# Altium footprint library Modulo de apertura.PcbLib: 17 footprints (part 2 of 2)
Each footprint in its own frame and in the unit in brackets; x right, y up, seen from the top. Pads: shape width x height; smd on the part's side, far side on the other; paste and mask are expansions set on the pad; w line width, h text height; cw(c..) or ccw(c..) is an arc to the next point about the centre after c.
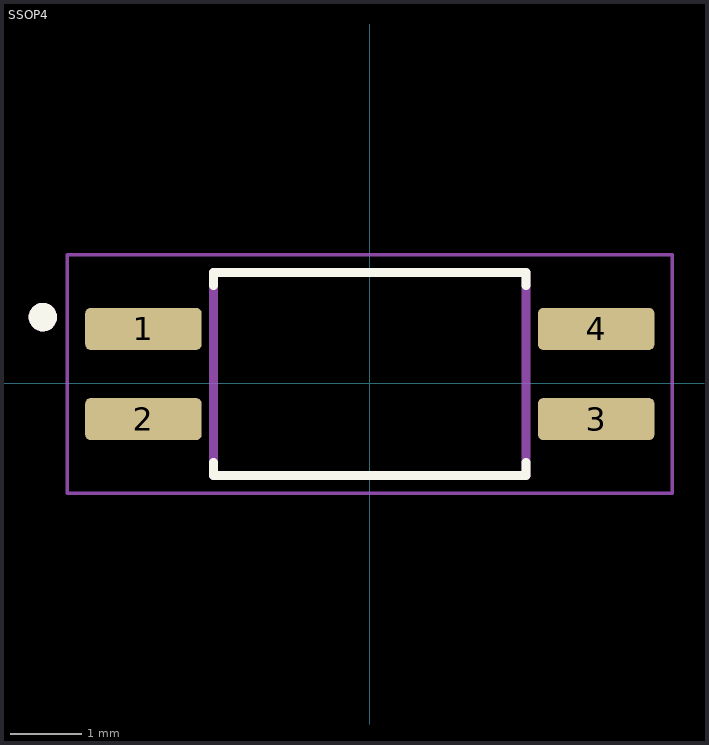
[diagram p1: the footprint, top view; thin cyan lines are the x and y axes]

## SSOP4 [mm]
pads (4):
  rrect25% 1.64x0.59 smd: 1(-3.185,0.762) 2(-3.185,-0.508) 3(3.185,-0.508) 4(3.185,0.762)
Top Overlay:
  circle w0.2: c-4.6,0.927 r0.1
  lines w0.127: -2.2,-1.118 -2.2,-1.303 2.2,-1.303 2.2,-1.118 ; -2.2,1.372 -2.2,1.557 2.2,1.557 2.2,1.372
Mechanical 13:
  circle w0.2: c-4.6,0.927 r0.1
  lines w0.127: -2.2,-1.303 -2.2,1.557 2.2,1.557 2.2,-1.303 -2.2,-1.303
Mechanical 15:
  lines w0.05: -4.255,-1.553 -4.255,1.807 4.255,1.807 4.255,-1.553 -4.255,-1.553
3D body "step_temp.STEP": height 2.1, standoff 0, extent -3.5,-1.173 3.5,1.427